# EAGLE library part BITFURY (library My_bitfury1)
t309
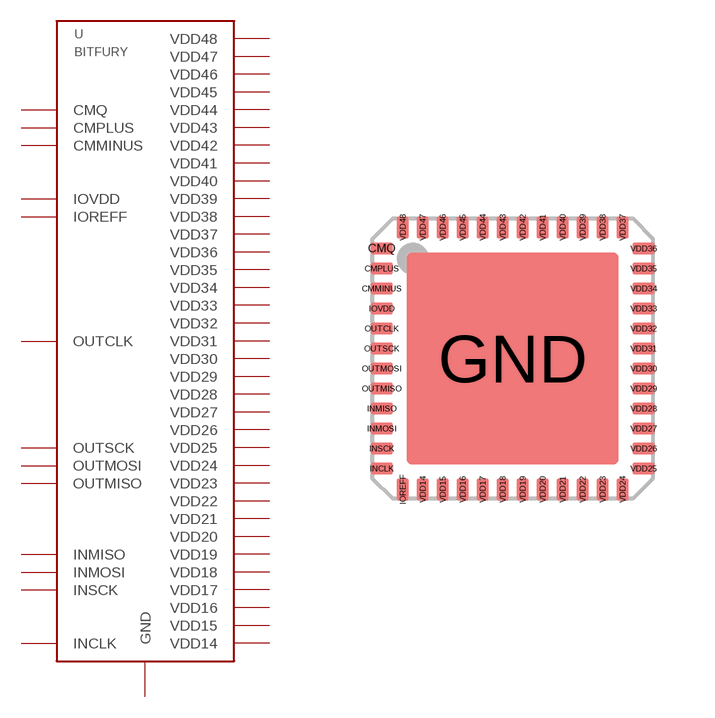
[diagram p13: symbol with the pads of QFN48; footprint QFN48]

Designator prefix U

## BITFURY  [QFN48]
CMMINUS  CMMINUS
CMPLUS  CMPLUS
CMQ  CMQ
GND  GND  pwr
INCLK  INCLK
INMISO  INMISO
INMOSI  INMOSI
INSCK  INSCK
IOREFF  IOREFF
IOVDD  IOVDD  pwr
OUTCLK  OUTCLK
OUTMISO  OUTMISO
OUTMOSI  OUTMOSI
OUTSCK  OUTSCK
VDD14  VDD14  pwr
VDD15  VDD15  pwr
VDD16  VDD16  pwr
VDD17  VDD17  pwr
VDD18  VDD18  pwr
VDD19  VDD19  pwr
VDD20  VDD20  pwr
VDD21  VDD21  pwr
VDD22  VDD22  pwr
VDD23  VDD23  pwr
VDD24  VDD24  pwr
VDD25  VDD25  pwr
VDD26  VDD26  pwr
VDD27  VDD27  pwr
VDD28  VDD28  pwr
VDD29  VDD29  pwr
VDD30  VDD30  pwr
VDD31  VDD31  pwr
VDD32  VDD32  pwr
VDD33  VDD33  pwr
VDD34  VDD34  pwr
VDD35  VDD35  pwr
VDD36  VDD36  pwr
VDD37  VDD37  pwr
VDD38  VDD38  pwr
VDD39  VDD39  pwr
VDD40  VDD40  pwr
VDD41  VDD41  pwr
VDD42  VDD42  pwr
VDD43  VDD43  pwr
VDD44  VDD44  pwr
VDD45  VDD45  pwr
VDD46  VDD46  pwr
VDD47  VDD47  pwr
VDD48  VDD48  pwr

## Footprint QFN48 (pad centres in mm)
48-pin QFN 7 x 7 mm LF48 48 Quad Flat Package No Leads Source: http://v4.cypress.com/cfuploads/img/products/cywusb6934.pdf
smd 0.55 x 0.3: CMMINUS -3.275,1.75; CMPLUS -3.275,2.25; CMQ -3.275,2.75; INCLK -3.275,-2.75; INMISO -3.275,-1.25; INMOSI -3.275,-1.75; INSCK -3.275,-2.25; IOVDD -3.275,1.25; OUTCLK -3.275,0.75; OUTMISO -3.275,-0.75; OUTMOSI -3.275,-0.25; OUTSCK -3.275,0.25; VDD25 3.275,-2.75; VDD26 3.275,-2.25; VDD27 3.275,-1.75; VDD28 3.275,-1.25; VDD29 3.275,-0.75; VDD30 3.275,-0.25; VDD31 3.275,0.25; VDD32 3.275,0.75; VDD33 3.275,1.25; VDD34 3.275,1.75; VDD35 3.275,2.25; VDD36 3.275,2.75
smd 5.309 x 5.309: GND 0,0
smd 0.3 x 0.55: IOREFF -2.75,-3.275; VDD14 -2.25,-3.275; VDD15 -1.75,-3.275; VDD16 -1.25,-3.275; VDD17 -0.75,-3.275; VDD18 -0.25,-3.275; VDD19 0.25,-3.275; VDD20 0.75,-3.275; VDD21 1.25,-3.275; VDD22 1.75,-3.275; VDD23 2.25,-3.275; VDD24 2.75,-3.275; VDD37 2.75,3.275; VDD38 2.25,3.275; VDD39 1.75,3.275; VDD40 1.25,3.275; VDD41 0.75,3.275; VDD42 0.25,3.275; VDD43 -0.25,3.275; VDD44 -0.75,3.275; VDD45 -1.25,3.275; VDD46 -1.75,3.275; VDD47 -2.25,3.275; VDD48 -2.75,3.275